# Altium footprint library TCRT5000_PCB_Library_ARAF.PcbLib: 1 footprints
Each footprint in its own frame and in the unit in brackets; x right, y up, seen from the top. Pads: shape width x height; smd on the part's side, far side on the other; paste and mask are expansions set on the pad; w line width, h text height; cw(c..) or ccw(c..) is an arc to the next point about the centre after c.
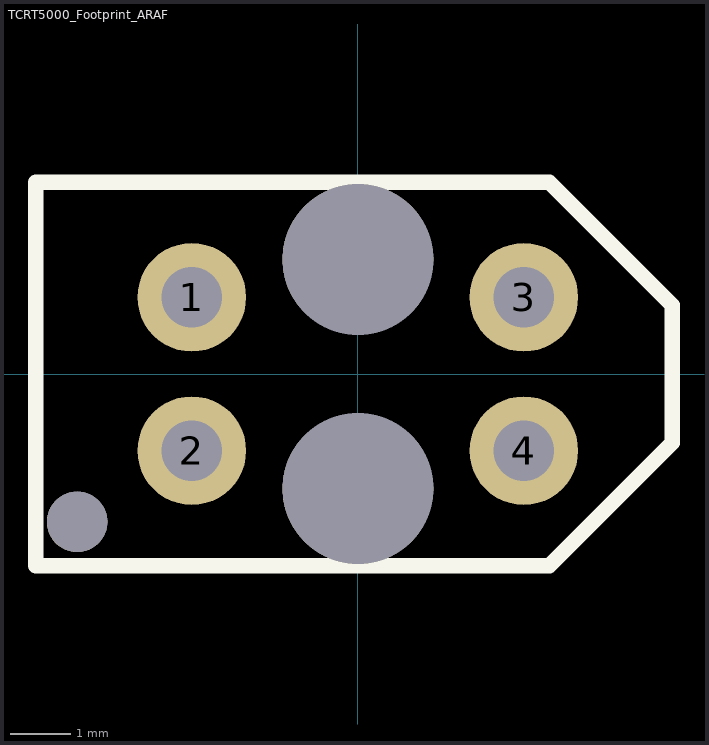
[diagram p0: the footprint, top view; thin cyan lines are the x and y axes]

## TCRT5000_Footprint_ARAF [mm]
pads (7):
  round 1.8 hole 1: 1(-2.75,1.27) 2(-2.75,-1.27) 3(2.75,1.27) 4(2.75,-1.27)
  round 1 hole 1: ""(-4.65,-2.45)
  round 2.5 hole 2.5: ""(0,-1.9) ""(0,1.9)
Top Overlay:
  lines w0.254: -5.334,-3.175 -5.334,3.175 3.175,3.175 5.207,1.143 5.207,-1.143 3.175,-3.175 -5.334,-3.175
3D body "TCRT-5000.stp": height 7, standoff -3.5, extent -5.1,-3.429 5.1,3.371